# EAGLE library part IC-PACKAGE_DIL16_SMD (library snesram)
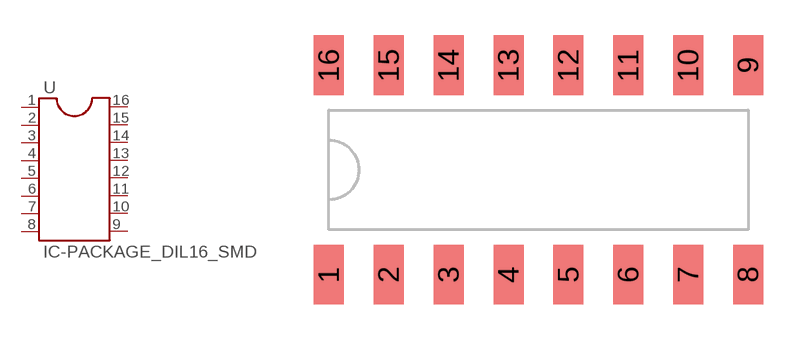
[diagram p8: symbol with the pads of IC-PACKAGE_DIL16_SMD; footprint IC-PACKAGE_DIL16_SMD]

Designator prefix -

## IC-PACKAGE_DIL16_SMD  [IC-PACKAGE_DIL16_SMD]
1  1  pas
2  2  pas
3  3  pas
4  4  pas
5  5  pas
6  6  pas
7  7  pas
8  8  pas
9  9  pas
10  10  pas
11  11  pas
12  12  pas
13  13  pas
14  14  pas
15  15  pas
16  16  pas

## Footprint IC-PACKAGE_DIL16_SMD (pad centres in mm)
smd 1.27 x 2.54: 1 -8.89,-4.445; 2 -6.35,-4.445; 3 -3.81,-4.445; 4 -1.27,-4.445; 5 1.27,-4.445; 6 3.81,-4.445; 7 6.35,-4.445; 8 8.89,-4.445; 9 8.89,4.445; 10 6.35,4.445; 11 3.81,4.445; 12 1.27,4.445; 13 -1.27,4.445; 14 -3.81,4.445; 15 -6.35,4.445; 16 -8.89,4.445